# Altium schematic symbol library LED.SchLib: 1 symbol
Pins are listed as number, name and electrical type; pins without a type are passive.

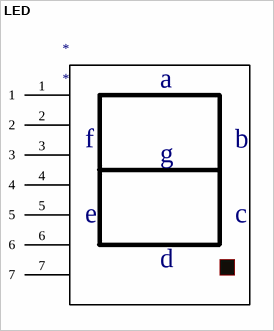
[diagram p0: symbol LED]

## LED
designator *
pins: 1, 2, 3, 4, 5, 6, 7
text: a; f; b; g; e; c; d